# Altium integrated library GCM21BC71E475KE36L.IntLib: 1 symbol
Pins are listed as number, name and electrical type; pins without a type are passive.

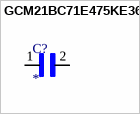
[diagram p0: symbol GCM21BC71E475KE36L]

## GCM21BC71E475KE36L
designator C?
0805 4.7 uF 25 V Â±10% Tolerance X7S Multilayer Ceramic Capacitor; MP: GCM21BC71E475KE36L; MF: Murata; SnapEDA_Link: https://www.snapeda.com/parts/GCM21BC71E475KE36L/Murata%20Electronics%20North%20America/view-part/1756378/?ref=snap; Price: None; Package: 2012 Murata; Availability: In Stock; Check_prices: https://www.snapeda.com/parts/GCM21BC71E475KE36L/Murata%20Electronics%20North%20America/view-part/1756378/?ref=eda; Value: *
footprint CAPC2012X145N
pins: 1, 2